# Altium schematic symbol library GOST_2.728_Rezistory&Kondensatory.SchLib: 24 symbols
Pins are listed as number, name and electrical type; pins without a type are passive.

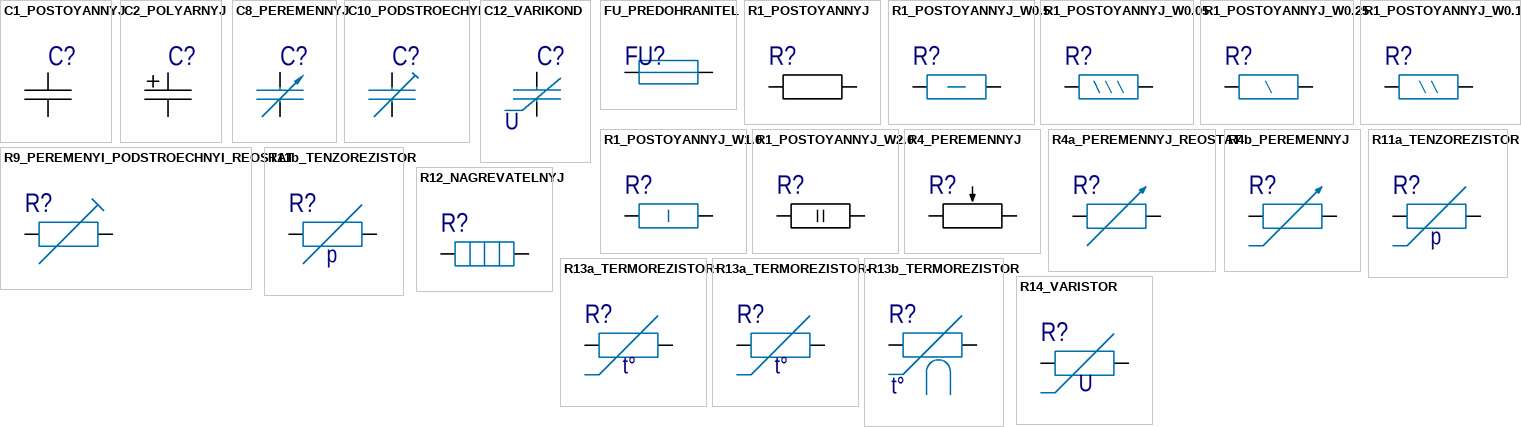
[diagram p0: symbols C1_POSTOYANNYJ to R14_VARISTOR]

## C1_POSTOYANNYJ
designator C?
Конденсатор постоянной емкости
pins: 1, 2

## C2_POLYARNYJ
designator C?
Конденсатор электролитический поляризованный
pins: 1, 2

## C8_PEREMENNYJ
designator C?
Конденсатор переменной емкости
pins: 1, 2

## C10_PODSTROECHYI
designator C?
Конденсатор подстроечный
pins: 1, 2

## C12_VARIKOND
designator C?
Вариконд
pins: 1, 2
text: U

## FU_PREDOHRANITEL
designator FU?
Предохранитель плавкий
pins: 1, 2

## R1_POSTOYANNYJ
designator R?
Резистор постоянный
simulation model Resistors (Model Description)
pins: 1, 2

## R1_POSTOYANNYJ_W0.5
designator R?
Резистор постоянный номинальной мощностью 0.5 Вт
pins: 1, 2

## R1_POSTOYANNYJ_W0.05
designator R?
Резистор постоянный номинальной мощностью 0.05 Вт
pins: 1, 2

## R1_POSTOYANNYJ_W0.25
designator R?
Резистор постоянный номинальной мощностью 0.25 Вт
pins: 1, 2

## R1_POSTOYANNYJ_W0.125
designator R?
Резистор постоянный номинальной мощностью 0.125 Вт
pins: 1, 2

## R1_POSTOYANNYJ_W1.0
designator R?
Резистор постоянный номинальной мощностью 1.0 Вт
pins: 1, 2

## R1_POSTOYANNYJ_W2.0
designator R?
Резистор постоянный номинальной мощностью 2.0 Вт
pins: 1, 2

## R4_PEREMENNYJ
designator R?
Резистор переменный
pins: 1, 2, 3

## R4a_PEREMENNYJ_REOSTAT
designator R?
Резистор переменный в реостатном включении общего обозначения
pins: 1, 2
1 alternate drawing of the same symbol

## R4b_PEREMENNYJ
designator R?
Резистор переменный в реостатном включении с нелинейным регулированием
pins: 1, 2
1 alternate drawing of the same symbol

## R9_PEREMENYI_PODSTROECHNYI_REOSTAT
designator R?
Резистор подстроечный в реостатном включении
pins: 1, 2
1 alternate drawing of the same symbol

## R11a_TENZOREZISTOR
designator R?
Тензорезистор нелинейный
pins: 1, 2
1 alternate drawing of the same symbol
text: p

## R11b_TENZOREZISTOR
designator R?
Тензорезистор линейный
pins: 1, 2
1 alternate drawing of the same symbol
text: p

## R12_NAGREVATELNYJ
designator R?
Элемент нагревательный
simulation model Resistors (Model Description)
pins: 1, 2

## R13a_TERMOREZISTOR+
designator R?
Терморезистор прямого подогрева с положительным температурным коэффициентом
pins: 1, 2
1 alternate drawing of the same symbol
text: t°

## R13a_TERMOREZISTOR-
designator R?
Терморезистор прямого подогрева с отрицательным температурным коэффициентом
pins: 1, 2
1 alternate drawing of the same symbol
text: t°

## R13b_TERMOREZISTOR
designator R?
Терморезистор косвенного подогрева с положительным температурным коэффициентом
pins: 1, 2
1 alternate drawing of the same symbol
text: t°

## R14_VARISTOR
designator R?
Варистор
pins: 1, 2
1 alternate drawing of the same symbol
text: U